# Altium schematic symbol library Transformer.SchLib: 3 symbols
Pins are listed as number, name and electrical type; pins without a type are passive.

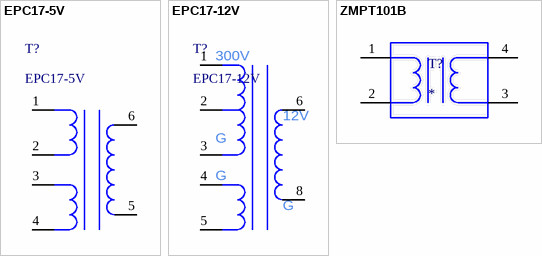
[diagram p0: symbols EPC17-5V to ZMPT101B]

## EPC17-5V
designator T?
12V high frequency transformer; ROM名称: 12V 高频变压器; 版权归属: 源创客; 学习资源: www.ooocke.com
footprint EPC17-10V 5+5 (磁芯17mm，高10mm，脚距3mm，)
pins: 1, 2, 3, 4, 5, 6

## EPC17-12V
designator T?
12V high frequency transformer; ROM名称: 12V 高频变压器; 版权归属: 源创客; 学习资源: www.ooocke.com
footprint EPC17-10V 5+5 (磁芯17mm，高10mm，脚距3mm，)
pins: 1, 2, 3, 4, 5, 6, 8
text: 300V; 12V; G

## ZMPT101B
designator T?
Current-type Voltage Transformer; Manufacturer_Name: Qingxian Zeming Langxi Electronic; Manufacturer_Part_Number: ZMPT101B; Datasheet Link: https://www.google.com/url?sa=t&rct=j&q=&esrc=s&source=web&cd=1&cad=rja&uact=8&ved=2ahUKEwimmPu3qq3kAhVbiFwKHdweBhQQFjAAegQIABAC&url=http%3A%2F%2F5nrorwxhmqqijik.leadongcdn.com%2Fattachment%2FkjilKBmoioSRqlkqjoipSR7ww7fgzb73m%2FZMPT101B-specification.pdf&; Height: 18.8mm
footprint ZMPT101B
pins: 1 PRI_1, 2 PRI_2, 3 SEC_1, 4 SEC_2